# Altium integrated library Linear Technology Power Management Switching Regulator LTC1174-LTC3901.IntLib: 2647 symbols (part 11 of 364)
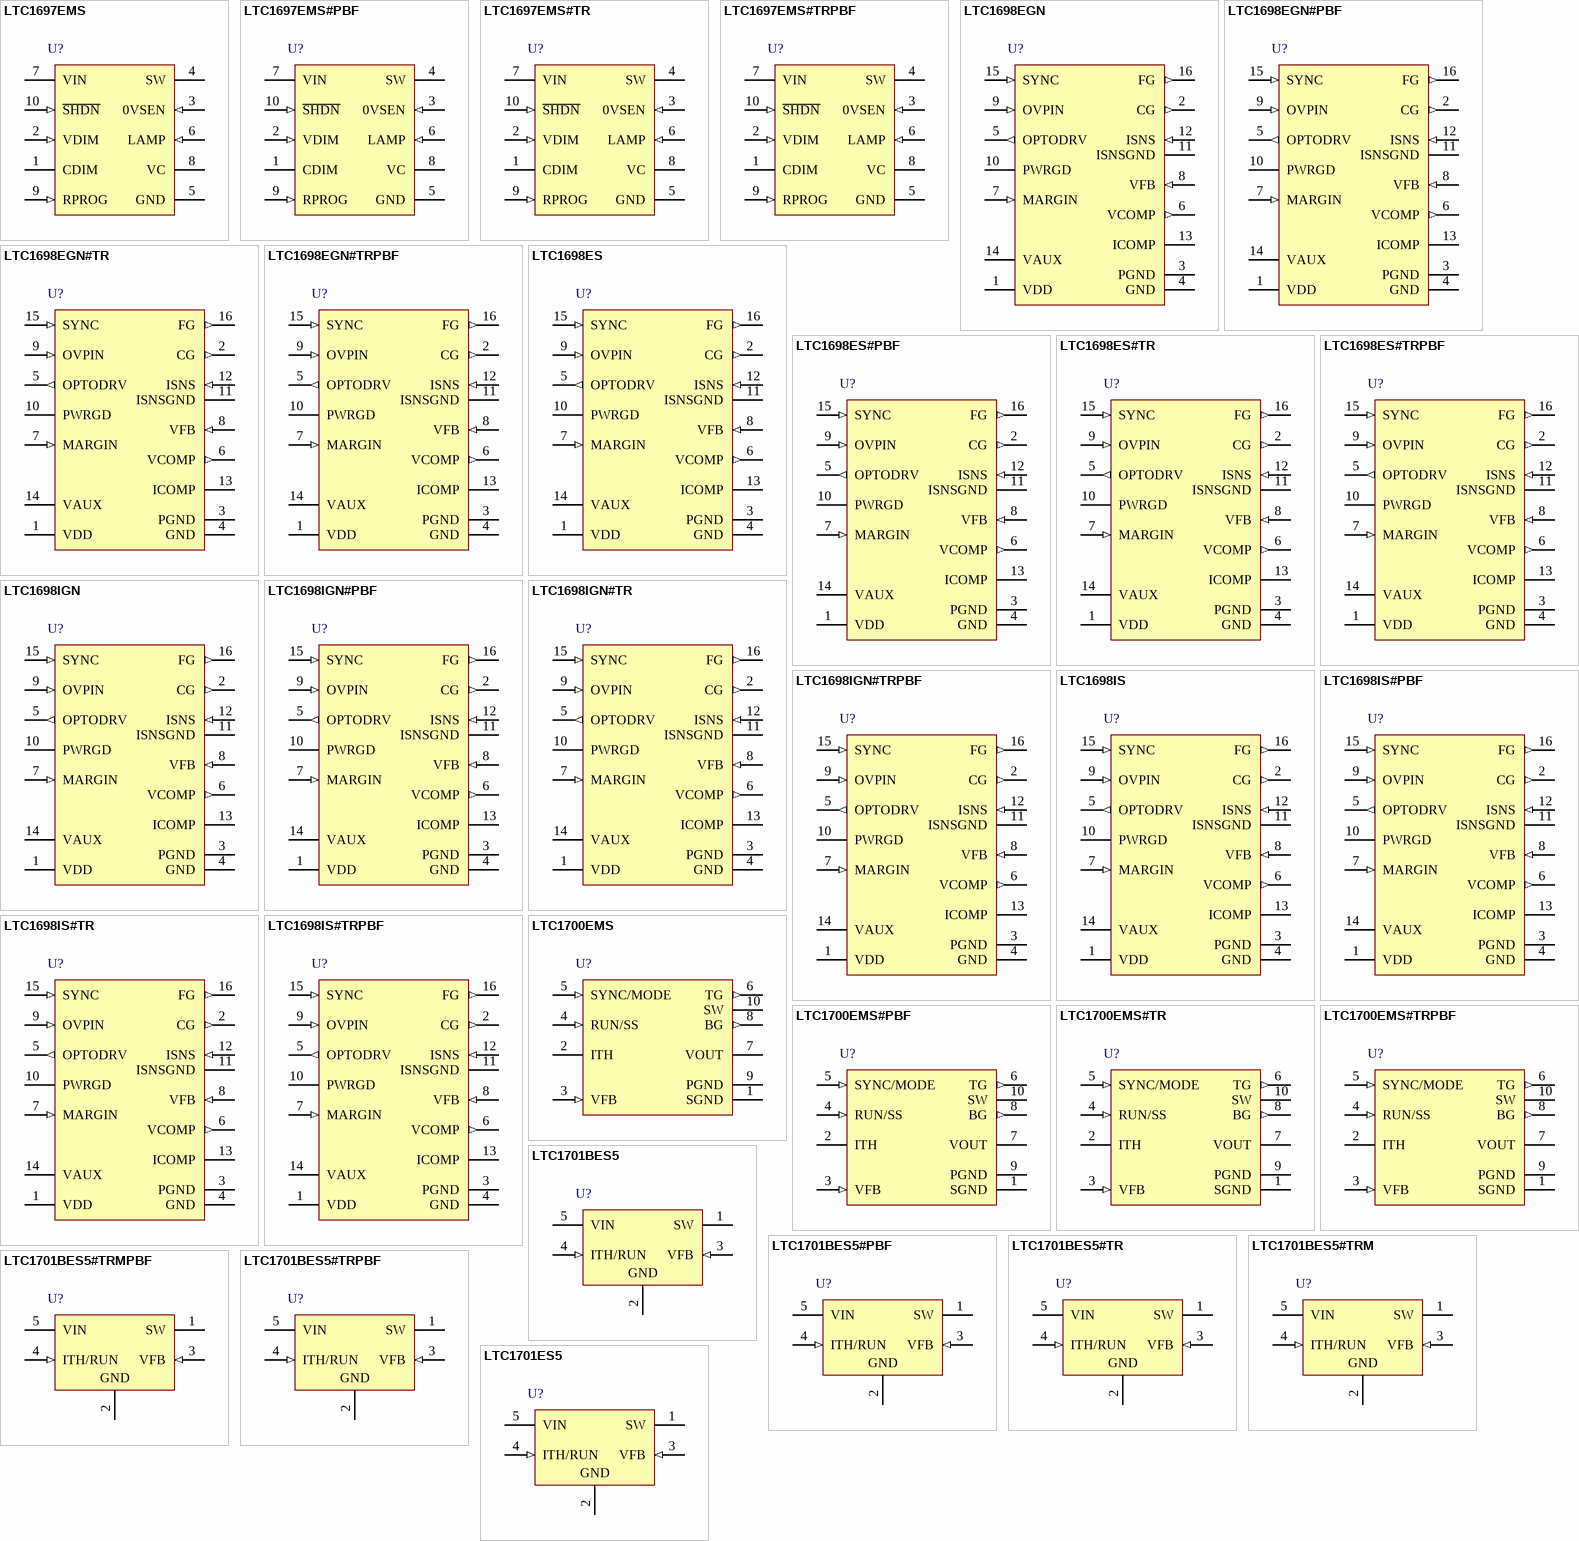
[diagram p121: symbols LTC1697EMS to LTC1701ES5]

## LTC1698IS#PBF
designator U?
Secondary Synchronous Rectifier Controller MIN, 16-pin SOP (S-16), -40 to 85 degC, Pb-Free; Manufacturer: Linear Technology; PartNumber: LTC1698IS#PBF; Number of Outputs: 1; PackageVersion: Rev. G, 05/2012; PackageReference: S-16; PackageDescription: 16-Pin Plastic Small Outline, Body 9.9 x 3.9 mm, Pitch 1.27 mm; Supplier 1: Digi-Key; Supplier Part Number 1: LTC1698IS#PBF-ND; Supplier 2: Farnell; Supplier Part Number 2: 1663668; Supplier 3: Newark; Supplier Part Number 3: 56M3294; RoHS: TRUE; Mounting Technology: Surface Mount; ComponentLink1Description: Manufacturer URL; ComponentLink1URL: http://www.linear.com/; ComponentLink2Description: Datasheet; ComponentLink2URL: http://cds.linear.com/docs/en/datasheet/1698f.pdf; ComponentLink3Description: Package Specification; ComponentLink3URL: http://cds.linear.com/docs/en/packaging/S16%2005-08-1610%20Rev%20G.pdf
footprint LT-S-16_N (SOP, 16-Leads, Body 10x4mm, Pitch 1.27mm, IPC Medium Density)
footprint LT-S-16_L (SOP, 16-Leads, Body 10x4mm, Pitch 1.27mm, IPC High Density)
footprint LT-S-16_M (SOP, 16-Leads, Body 10x4mm, Pitch 1.27mm, IPC Low Density)
pins: 1 VDD (power) "Power Supply Input. For isolated applications, a simple rectifier from the power transformer is used to power the chip. This pin powers the opto driver, the VAUX supply and the FG and CG drivers. An internal 5V regulator (See Datasheet)", 2 CG (out) "Catch Gate Driver. If SYNC slews positive, CG pulls high to drive an external N-channel MOSFET. CG draws power from the VDD pin and swings between VDD and PGND.", 3 PGND (power) "Power Ground. Connect PGND to a low impedance ground plane in close proximity to the ground terminal of the external current sensing resistor.", 4 GND (power) "Logic and Signal Ground. GND is referenced to the internal low power circuitry. Careful board layout techniques must be used to prevent corruption of signal ground reference. Connect GND and PGND together directly at the (See Datasheet)", 5 OPTODRV (out) "Optocoupler Driver Output. This pin drives a ground referenced optocoupler through an external resistor. If VFB is low, OPTODRV pulls low. If VFB is high, OPTODRV pulls high. This optocoupler driver has a DC gain of 5. (See Datasheet)", 6 VCOMP (out) "Error Amplifier Output. This error amplifier is able to drive more than 2kohm and 100pF of load. The internal diode connected from VFB to VCOMP reduces OPTODRV recovery time under start-up conditions.", 7 MARGIN (in) "Current Input to Adjust the Output Voltage Linearly. The MARGIN pin connects to an internal 16.5k resistor. The other end of this resistor is regulated to 1.65V. Connecting MARGIN to a 3.3V logic supply sources 100uA of (See Datasheet)", 8 VFB (in) "Feedback Voltage. VFB senses the regulated output voltage through an external resistor divider. The VFB pin is servoed to the reference voltage of 1.233V under closed-loop conditions. An RC network from VFB to VCOMP (See Datasheet)", 9 OVPIN (in) "Overvoltage Input. OVPIN is a high impedance input to an internal comparator. The threshold of this comparator is set to 1.233V. If the OVPIN potential is higher than the threshold voltage, OPTODRV pulls high immediately. (See Datasheet)", 10 PWRGD (oc) "Power Good Output. This is an opendrain output. PWRGD floats if VFB is above 94% of the nominal value for more than 2ms. PWRGD pulls low if VFB is below 94% of the nominal value for more than 1ms. The PWRGD threshold is (See Datasheet)", 11 ISNSGND (power) "Current Sense Ground. Connect to the positive side of the sense resistor, normally grounded.", 12 ISNS (in) "Current Sense Input. Connect to the negative side of the sense resistor through an external RC lowpass filter. This pin normally sees a negative voltage, which is proportional to the average load current. If current limit is (See Datasheet)", 13 ICOMP "Current Amplifier Output. An RC network at this pin compensates the current limit feedback loop. Referencing the RC to VOUT controls output voltage overshoot on start-up. This pin can float if current limit loop compensation (See Datasheet)", 14 VAUX (power) "Auxiliary 3.3V Logic Supply. This pin requires a 0.1uF or greater bypass capacitor. This auxiliary power supply can power external devices and sources 10mA of current. Internal current limiting is provided.", 15 SYNC (in) "Drivers Synchronization Input. A negative voltage slew at SYNC forces FG to pull high and CG to pull low. A positive voltage slew at SYNC resets the FG pin and CG pulls high. If SYNC loses its synchronization signal for more (See Datasheet)", 16 FG (out) "Forward Gate Driver. If SYNC slews negative, FG goes high. FG draws power from VDD and swings between VDD and PGND."

## LTC1698IS#TR
designator U?
Secondary Synchronous Rectifier Controller MIN, 16-pin SOP (S-16), -40 to 85 degC, Tape and Reel; Manufacturer: Linear Technology; PartNumber: LTC1698IS#TR; Number of Outputs: 1; PackageVersion: Rev. G, 05/2012; PackageReference: S-16; PackageDescription: 16-Pin Plastic Small Outline, Body 9.9 x 3.9 mm, Pitch 1.27 mm; Supplier 1: Digi-Key; Supplier Part Number 1: LTC1698IS#TR-ND; Packing: Tape and Reel; RoHS: FALSE; Mounting Technology: Surface Mount; ComponentLink1Description: Manufacturer URL; ComponentLink1URL: http://www.linear.com/; ComponentLink2Description: Datasheet; ComponentLink2URL: http://cds.linear.com/docs/en/datasheet/1698f.pdf; ComponentLink3Description: Package Specification; ComponentLink3URL: http://cds.linear.com/docs/en/packaging/S16%2005-08-1610%20Rev%20G.pdf
footprint LT-S-16_N (SOP, 16-Leads, Body 10x4mm, Pitch 1.27mm, IPC Medium Density)
footprint LT-S-16_L (SOP, 16-Leads, Body 10x4mm, Pitch 1.27mm, IPC High Density)
footprint LT-S-16_M (SOP, 16-Leads, Body 10x4mm, Pitch 1.27mm, IPC Low Density)
pins: 1 VDD (power) "Power Supply Input. For isolated applications, a simple rectifier from the power transformer is used to power the chip. This pin powers the opto driver, the VAUX supply and the FG and CG drivers. An internal 5V regulator (See Datasheet)", 2 CG (out) "Catch Gate Driver. If SYNC slews positive, CG pulls high to drive an external N-channel MOSFET. CG draws power from the VDD pin and swings between VDD and PGND.", 3 PGND (power) "Power Ground. Connect PGND to a low impedance ground plane in close proximity to the ground terminal of the external current sensing resistor.", 4 GND (power) "Logic and Signal Ground. GND is referenced to the internal low power circuitry. Careful board layout techniques must be used to prevent corruption of signal ground reference. Connect GND and PGND together directly at the (See Datasheet)", 5 OPTODRV (out) "Optocoupler Driver Output. This pin drives a ground referenced optocoupler through an external resistor. If VFB is low, OPTODRV pulls low. If VFB is high, OPTODRV pulls high. This optocoupler driver has a DC gain of 5. (See Datasheet)", 6 VCOMP (out) "Error Amplifier Output. This error amplifier is able to drive more than 2kohm and 100pF of load. The internal diode connected from VFB to VCOMP reduces OPTODRV recovery time under start-up conditions.", 7 MARGIN (in) "Current Input to Adjust the Output Voltage Linearly. The MARGIN pin connects to an internal 16.5k resistor. The other end of this resistor is regulated to 1.65V. Connecting MARGIN to a 3.3V logic supply sources 100uA of (See Datasheet)", 8 VFB (in) "Feedback Voltage. VFB senses the regulated output voltage through an external resistor divider. The VFB pin is servoed to the reference voltage of 1.233V under closed-loop conditions. An RC network from VFB to VCOMP (See Datasheet)", 9 OVPIN (in) "Overvoltage Input. OVPIN is a high impedance input to an internal comparator. The threshold of this comparator is set to 1.233V. If the OVPIN potential is higher than the threshold voltage, OPTODRV pulls high immediately. (See Datasheet)", 10 PWRGD (oc) "Power Good Output. This is an opendrain output. PWRGD floats if VFB is above 94% of the nominal value for more than 2ms. PWRGD pulls low if VFB is below 94% of the nominal value for more than 1ms. The PWRGD threshold is (See Datasheet)", 11 ISNSGND (power) "Current Sense Ground. Connect to the positive side of the sense resistor, normally grounded.", 12 ISNS (in) "Current Sense Input. Connect to the negative side of the sense resistor through an external RC lowpass filter. This pin normally sees a negative voltage, which is proportional to the average load current. If current limit is (See Datasheet)", 13 ICOMP "Current Amplifier Output. An RC network at this pin compensates the current limit feedback loop. Referencing the RC to VOUT controls output voltage overshoot on start-up. This pin can float if current limit loop compensation (See Datasheet)", 14 VAUX (power) "Auxiliary 3.3V Logic Supply. This pin requires a 0.1uF or greater bypass capacitor. This auxiliary power supply can power external devices and sources 10mA of current. Internal current limiting is provided.", 15 SYNC (in) "Drivers Synchronization Input. A negative voltage slew at SYNC forces FG to pull high and CG to pull low. A positive voltage slew at SYNC resets the FG pin and CG pulls high. If SYNC loses its synchronization signal for more (See Datasheet)", 16 FG (out) "Forward Gate Driver. If SYNC slews negative, FG goes high. FG draws power from VDD and swings between VDD and PGND."

## LTC1698IS#TRPBF
designator U?
Secondary Synchronous Rectifier Controller MIN, 16-pin SOP (S-16), -40 to 85 degC, Pb-Free, Tape and Reel; Manufacturer: Linear Technology; PartNumber: LTC1698IS#TRPBF; Number of Outputs: 1; PackageVersion: Rev. G, 05/2012; PackageReference: S-16; PackageDescription: 16-Pin Plastic Small Outline, Body 9.9 x 3.9 mm, Pitch 1.27 mm; Supplier 1: Digi-Key; Supplier Part Number 1: LTC1698IS#TRPBF-ND; Packing: Tape and Reel; RoHS: TRUE; Mounting Technology: Surface Mount; ComponentLink1Description: Manufacturer URL; ComponentLink1URL: http://www.linear.com/; ComponentLink2Description: Datasheet; ComponentLink2URL: http://cds.linear.com/docs/en/datasheet/1698f.pdf; ComponentLink3Description: Package Specification; ComponentLink3URL: http://cds.linear.com/docs/en/packaging/S16%2005-08-1610%20Rev%20G.pdf
footprint LT-S-16_N (SOP, 16-Leads, Body 10x4mm, Pitch 1.27mm, IPC Medium Density)
footprint LT-S-16_L (SOP, 16-Leads, Body 10x4mm, Pitch 1.27mm, IPC High Density)
footprint LT-S-16_M (SOP, 16-Leads, Body 10x4mm, Pitch 1.27mm, IPC Low Density)
pins: 1 VDD (power) "Power Supply Input. For isolated applications, a simple rectifier from the power transformer is used to power the chip. This pin powers the opto driver, the VAUX supply and the FG and CG drivers. An internal 5V regulator (See Datasheet)", 2 CG (out) "Catch Gate Driver. If SYNC slews positive, CG pulls high to drive an external N-channel MOSFET. CG draws power from the VDD pin and swings between VDD and PGND.", 3 PGND (power) "Power Ground. Connect PGND to a low impedance ground plane in close proximity to the ground terminal of the external current sensing resistor.", 4 GND (power) "Logic and Signal Ground. GND is referenced to the internal low power circuitry. Careful board layout techniques must be used to prevent corruption of signal ground reference. Connect GND and PGND together directly at the (See Datasheet)", 5 OPTODRV (out) "Optocoupler Driver Output. This pin drives a ground referenced optocoupler through an external resistor. If VFB is low, OPTODRV pulls low. If VFB is high, OPTODRV pulls high. This optocoupler driver has a DC gain of 5. (See Datasheet)", 6 VCOMP (out) "Error Amplifier Output. This error amplifier is able to drive more than 2kohm and 100pF of load. The internal diode connected from VFB to VCOMP reduces OPTODRV recovery time under start-up conditions.", 7 MARGIN (in) "Current Input to Adjust the Output Voltage Linearly. The MARGIN pin connects to an internal 16.5k resistor. The other end of this resistor is regulated to 1.65V. Connecting MARGIN to a 3.3V logic supply sources 100uA of (See Datasheet)", 8 VFB (in) "Feedback Voltage. VFB senses the regulated output voltage through an external resistor divider. The VFB pin is servoed to the reference voltage of 1.233V under closed-loop conditions. An RC network from VFB to VCOMP (See Datasheet)", 9 OVPIN (in) "Overvoltage Input. OVPIN is a high impedance input to an internal comparator. The threshold of this comparator is set to 1.233V. If the OVPIN potential is higher than the threshold voltage, OPTODRV pulls high immediately. (See Datasheet)", 10 PWRGD (oc) "Power Good Output. This is an opendrain output. PWRGD floats if VFB is above 94% of the nominal value for more than 2ms. PWRGD pulls low if VFB is below 94% of the nominal value for more than 1ms. The PWRGD threshold is (See Datasheet)", 11 ISNSGND (power) "Current Sense Ground. Connect to the positive side of the sense resistor, normally grounded.", 12 ISNS (in) "Current Sense Input. Connect to the negative side of the sense resistor through an external RC lowpass filter. This pin normally sees a negative voltage, which is proportional to the average load current. If current limit is (See Datasheet)", 13 ICOMP "Current Amplifier Output. An RC network at this pin compensates the current limit feedback loop. Referencing the RC to VOUT controls output voltage overshoot on start-up. This pin can float if current limit loop compensation (See Datasheet)", 14 VAUX (power) "Auxiliary 3.3V Logic Supply. This pin requires a 0.1uF or greater bypass capacitor. This auxiliary power supply can power external devices and sources 10mA of current. Internal current limiting is provided.", 15 SYNC (in) "Drivers Synchronization Input. A negative voltage slew at SYNC forces FG to pull high and CG to pull low. A positive voltage slew at SYNC resets the FG pin and CG pulls high. If SYNC loses its synchronization signal for more (See Datasheet)", 16 FG (out) "Forward Gate Driver. If SYNC slews negative, FG goes high. FG draws power from VDD and swings between VDD and PGND."

## LTC1700EMS
designator U?
No Rsense Synchronous Step-Up DC/DC Controller MAX, 10-pin SOP (MS-10), -40 to 85 degC; Manufacturer: Linear Technology; PartNumber: LTC1700EMS; Number of Outputs: 1; DatasheetVersion: Rev. A; PackageVersion: Rev. E, 06/2010; PackageReference: MS-10; PackageDescription: 10-Pin Plastic MSOP, Body 3 x 3 mm, Pitch 0.5 mm; Supplier 1: Digi-Key; Supplier Part Number 1: LTC1700EMS-ND; RoHS: FALSE; Mounting Technology: Surface Mount; ComponentLink1Description: Manufacturer URL; ComponentLink1URL: http://www.linear.com/; ComponentLink2Description: Datasheet; ComponentLink2URL: http://cds.linear.com/docs/en/datasheet/1700fa.pdf; ComponentLink3Description: Package Specification; ComponentLink3URL: http://cds.linear.com/docs/en/packaging/05081661_F_MS.pdf
footprint LT-MS-10_N (SOP, 10-Leads, Body 3.1x3.1mm, Pitch 0.5mm, IPC Medium Density)
footprint LT-MS-10_L (SOP, 10-Leads, Body 3.1x3.1mm, Pitch 0.5mm, IPC High Density)
footprint LT-MS-10_M (SOP, 10-Leads, Body 3.1x3.1mm, Pitch 0.5mm, IPC Low Density)
pins: 1 SGND (power) "Small-Signal Ground. Must be routed separately from other grounds to the (-) terminal of COUT.", 2 ITH "Error Amplifier Compensation Point. The current comparator threshold increases with this control voltage. Nominal voltage range for this pin is 0V to 1.18V.", 3 VFB (in) "Receives the feedback voltage from an external resistive divider across the output capacitor.", 4 RUN/SS (in) "Combination of Soft-Start and Run Control Inputs. A capacitor to ground at this pin sets the ramp time to full output current. The time is approximately 0.45s/uF. Forcing this pin below 1.08V causes all circuitry to be shut (See Datasheet)", 5 SYNC/MODE (in) "This pin performs three functions. A voltage greater than 1.2V on this pin allows Burst Mode operation at low load currents, while grounding or applying a clock signal on this pin defeats Burst Mode operation. An external (See Datasheet)", 6 TG (out) "Top Gate Drive. Drives the external synchronous P-channel MOSFET with a voltage swing between 0V to VOUT.", 7 VOUT (power) "This pin performs two functions. It serves as the supply pin and also as one of the inputs to the current reversal comparator.", 8 BG (out) "Bottom Gate Drive. Drives the external main N-channel MOSFET with a voltage swing between 0V to VOUT.", 9 PGND (power) "Top and Bottom Gate Drivers Ground. Connects to the (-) terminal of COUT. Source of the main N-channel MOSFET must be connected close to this pin since this pin is also one of the inputs to the VDS sense amplifier.", 10 SW (power) "This pin connects to the inputs of two comparators: The VDS sense amplifier and the current reversal comparator. The drain of an internal N-channel start-up MOSFET (M1) is also connected to this pin."

## LTC1700EMS#PBF
designator U?
No Rsense Synchronous Step-Up DC/DC Controller MAX, 10-pin SOP (MS-10), -40 to 85 degC, Pb-Free; Manufacturer: Linear Technology; PartNumber: LTC1700EMS#PBF; Number of Outputs: 1; DatasheetVersion: Rev. A; PackageVersion: Rev. E, 06/2010; PackageReference: MS-10; PackageDescription: 10-Pin Plastic MSOP, Body 3 x 3 mm, Pitch 0.5 mm; Supplier 1: Digi-Key; Supplier Part Number 1: LTC1700EMS#PBF-ND; Supplier 2: Farnell; Supplier Part Number 2: 1663669; Supplier 3: Newark; Supplier Part Number 3: 56M3322; RoHS: TRUE; Mounting Technology: Surface Mount; ComponentLink1Description: Manufacturer URL; ComponentLink1URL: http://www.linear.com/; ComponentLink2Description: Datasheet; ComponentLink2URL: http://cds.linear.com/docs/en/datasheet/1700fa.pdf; ComponentLink3Description: Package Specification; ComponentLink3URL: http://cds.linear.com/docs/en/packaging/05081661_F_MS.pdf
footprint LT-MS-10_N (SOP, 10-Leads, Body 3.1x3.1mm, Pitch 0.5mm, IPC Medium Density)
footprint LT-MS-10_L (SOP, 10-Leads, Body 3.1x3.1mm, Pitch 0.5mm, IPC High Density)
footprint LT-MS-10_M (SOP, 10-Leads, Body 3.1x3.1mm, Pitch 0.5mm, IPC Low Density)
pins: 1 SGND (power) "Small-Signal Ground. Must be routed separately from other grounds to the (-) terminal of COUT.", 2 ITH "Error Amplifier Compensation Point. The current comparator threshold increases with this control voltage. Nominal voltage range for this pin is 0V to 1.18V.", 3 VFB (in) "Receives the feedback voltage from an external resistive divider across the output capacitor.", 4 RUN/SS (in) "Combination of Soft-Start and Run Control Inputs. A capacitor to ground at this pin sets the ramp time to full output current. The time is approximately 0.45s/uF. Forcing this pin below 1.08V causes all circuitry to be shut (See Datasheet)", 5 SYNC/MODE (in) "This pin performs three functions. A voltage greater than 1.2V on this pin allows Burst Mode operation at low load currents, while grounding or applying a clock signal on this pin defeats Burst Mode operation. An external (See Datasheet)", 6 TG (out) "Top Gate Drive. Drives the external synchronous P-channel MOSFET with a voltage swing between 0V to VOUT.", 7 VOUT (power) "This pin performs two functions. It serves as the supply pin and also as one of the inputs to the current reversal comparator.", 8 BG (out) "Bottom Gate Drive. Drives the external main N-channel MOSFET with a voltage swing between 0V to VOUT.", 9 PGND (power) "Top and Bottom Gate Drivers Ground. Connects to the (-) terminal of COUT. Source of the main N-channel MOSFET must be connected close to this pin since this pin is also one of the inputs to the VDS sense amplifier.", 10 SW (power) "This pin connects to the inputs of two comparators: The VDS sense amplifier and the current reversal comparator. The drain of an internal N-channel start-up MOSFET (M1) is also connected to this pin."

## LTC1700EMS#TR
designator U?
No Rsense Synchronous Step-Up DC/DC Controller MAX, 10-pin SOP (MS-10), -40 to 85 degC, Tape and Reel; Manufacturer: Linear Technology; PartNumber: LTC1700EMS#TR; Number of Outputs: 1; DatasheetVersion: Rev. A; PackageVersion: Rev. E, 06/2010; PackageReference: MS-10; PackageDescription: 10-Pin Plastic MSOP, Body 3 x 3 mm, Pitch 0.5 mm; Supplier 1: Digi-Key; Supplier Part Number 1: LTC1700EMSTR-ND; Packing: Tape and Reel; RoHS: FALSE; Mounting Technology: Surface Mount; ComponentLink1Description: Manufacturer URL; ComponentLink1URL: http://www.linear.com/; ComponentLink2Description: Datasheet; ComponentLink2URL: http://cds.linear.com/docs/en/datasheet/1700fa.pdf; ComponentLink3Description: Package Specification; ComponentLink3URL: http://cds.linear.com/docs/en/packaging/05081661_F_MS.pdf
footprint LT-MS-10_N (SOP, 10-Leads, Body 3.1x3.1mm, Pitch 0.5mm, IPC Medium Density)
footprint LT-MS-10_L (SOP, 10-Leads, Body 3.1x3.1mm, Pitch 0.5mm, IPC High Density)
footprint LT-MS-10_M (SOP, 10-Leads, Body 3.1x3.1mm, Pitch 0.5mm, IPC Low Density)
pins: 1 SGND (power) "Small-Signal Ground. Must be routed separately from other grounds to the (-) terminal of COUT.", 2 ITH "Error Amplifier Compensation Point. The current comparator threshold increases with this control voltage. Nominal voltage range for this pin is 0V to 1.18V.", 3 VFB (in) "Receives the feedback voltage from an external resistive divider across the output capacitor.", 4 RUN/SS (in) "Combination of Soft-Start and Run Control Inputs. A capacitor to ground at this pin sets the ramp time to full output current. The time is approximately 0.45s/uF. Forcing this pin below 1.08V causes all circuitry to be shut (See Datasheet)", 5 SYNC/MODE (in) "This pin performs three functions. A voltage greater than 1.2V on this pin allows Burst Mode operation at low load currents, while grounding or applying a clock signal on this pin defeats Burst Mode operation. An external (See Datasheet)", 6 TG (out) "Top Gate Drive. Drives the external synchronous P-channel MOSFET with a voltage swing between 0V to VOUT.", 7 VOUT (power) "This pin performs two functions. It serves as the supply pin and also as one of the inputs to the current reversal comparator.", 8 BG (out) "Bottom Gate Drive. Drives the external main N-channel MOSFET with a voltage swing between 0V to VOUT.", 9 PGND (power) "Top and Bottom Gate Drivers Ground. Connects to the (-) terminal of COUT. Source of the main N-channel MOSFET must be connected close to this pin since this pin is also one of the inputs to the VDS sense amplifier.", 10 SW (power) "This pin connects to the inputs of two comparators: The VDS sense amplifier and the current reversal comparator. The drain of an internal N-channel start-up MOSFET (M1) is also connected to this pin."

## LTC1700EMS#TRPBF
designator U?
No Rsense Synchronous Step-Up DC/DC Controller MAX, 10-pin SOP (MS-10), -40 to 85 degC, Pb-Free, Tape and Reel; Manufacturer: Linear Technology; PartNumber: LTC1700EMS#TRPBF; Number of Outputs: 1; DatasheetVersion: Rev. A; PackageVersion: Rev. E, 06/2010; PackageReference: MS-10; PackageDescription: 10-Pin Plastic MSOP, Body 3 x 3 mm, Pitch 0.5 mm; Supplier 1: Digi-Key; Supplier Part Number 1: LTC1700EMS#TRPBF-ND; Packing: Tape and Reel; RoHS: TRUE; Mounting Technology: Surface Mount; ComponentLink1Description: Manufacturer URL; ComponentLink1URL: http://www.linear.com/; ComponentLink2Description: Datasheet; ComponentLink2URL: http://cds.linear.com/docs/en/datasheet/1700fa.pdf; ComponentLink3Description: Package Specification; ComponentLink3URL: http://cds.linear.com/docs/en/packaging/05081661_F_MS.pdf
footprint LT-MS-10_N (SOP, 10-Leads, Body 3.1x3.1mm, Pitch 0.5mm, IPC Medium Density)
footprint LT-MS-10_L (SOP, 10-Leads, Body 3.1x3.1mm, Pitch 0.5mm, IPC High Density)
footprint LT-MS-10_M (SOP, 10-Leads, Body 3.1x3.1mm, Pitch 0.5mm, IPC Low Density)
pins: 1 SGND (power) "Small-Signal Ground. Must be routed separately from other grounds to the (-) terminal of COUT.", 2 ITH "Error Amplifier Compensation Point. The current comparator threshold increases with this control voltage. Nominal voltage range for this pin is 0V to 1.18V.", 3 VFB (in) "Receives the feedback voltage from an external resistive divider across the output capacitor.", 4 RUN/SS (in) "Combination of Soft-Start and Run Control Inputs. A capacitor to ground at this pin sets the ramp time to full output current. The time is approximately 0.45s/uF. Forcing this pin below 1.08V causes all circuitry to be shut (See Datasheet)", 5 SYNC/MODE (in) "This pin performs three functions. A voltage greater than 1.2V on this pin allows Burst Mode operation at low load currents, while grounding or applying a clock signal on this pin defeats Burst Mode operation. An external (See Datasheet)", 6 TG (out) "Top Gate Drive. Drives the external synchronous P-channel MOSFET with a voltage swing between 0V to VOUT.", 7 VOUT (power) "This pin performs two functions. It serves as the supply pin and also as one of the inputs to the current reversal comparator.", 8 BG (out) "Bottom Gate Drive. Drives the external main N-channel MOSFET with a voltage swing between 0V to VOUT.", 9 PGND (power) "Top and Bottom Gate Drivers Ground. Connects to the (-) terminal of COUT. Source of the main N-channel MOSFET must be connected close to this pin since this pin is also one of the inputs to the VDS sense amplifier.", 10 SW (power) "This pin connects to the inputs of two comparators: The VDS sense amplifier and the current reversal comparator. The drain of an internal N-channel start-up MOSFET (M1) is also connected to this pin."

## LTC1701BES5
designator U?
1 MHz Step-Down DC/DC Converter, No Burst Mode, 5-pin SOT23 (S5-5), -40 to 85 degC; Manufacturer: Linear Technology; PartNumber: LTC1701BES5; Number of Outputs: 1; DatasheetVersion: Rev. A; PackageVersion: Jun-10; PackageReference: S5-5; PackageDescription: 5-Pin Plastic TSOT-23, Body 1.63 x 2.90 mm, Pitch 0.95 mm; RoHS: FALSE; Mounting Technology: Surface Mount; Code_JEDEC: MO-193; ComponentLink1Description: Manufacturer URL; ComponentLink1URL: http://www.linear.com/; ComponentLink2Description: Datasheet; ComponentLink2URL: http://cds.linear.com/docs/en/datasheet/1701bfa.pdf; ComponentLink3Description: Package Specification; ComponentLink3URL: http://cds.linear.com/docs/en/packaging/SOT_5_05-08-1635.pdf
footprint LT-S5-5-TSOT-23_N (SOT23, 5-Leads, Body 2.90x1.63mm, Pitch 0.95mm, IPC Medium Density)
footprint LT-S5-5-TSOT-23_L (SOT23, 5-Leads, Body 2.90x1.63mm, Pitch 0.95mm, IPC High Density)
footprint LT-S5-5-TSOT-23_M (SOT23, 5-Leads, Body 2.90x1.63mm, Pitch 0.95mm, IPC Low Density)
pins: 1 SW (power) "The Switch Node Connection to the Inductor. This pin swings from VIN to a Schottky diode (external) voltage drop below ground. The cathode of the Schottky diode must be closely connected to this pin.", 2 GND (power) "Ground Pin. Connect to the (-) terminal of COUT, the Schottky diode and (-) terminal of CIN.", 3 VFB (in) "Receives the feedback voltage from the external resistive divider across the output. Nominal voltage for this pin is 1.25V.", 4 ITH/RUN (in) "Combination of Error Amplifier Compensation Point and Run Control Input. The current comparator threshold increases with this control voltage. Nominal voltage range for this pin is 1.25V to 2.25V. Forcing this pin below 0.8V (See Datasheet)", 5 VIN (power) "Main Supply Pin and the (+) Input to the Current Comparator. Must be closely decoupled to ground."

## LTC1701BES5#PBF
designator U?
1 MHz Step-Down DC/DC Converter, No Burst Mode, 5-pin SOT23 (S5-5), -40 to 85 degC, Pb-Free; Manufacturer: Linear Technology; PartNumber: LTC1701BES5#PBF; Number of Outputs: 1; DatasheetVersion: Rev. A; PackageVersion: Jun-10; PackageReference: S5-5; PackageDescription: 5-Pin Plastic TSOT-23, Body 1.63 x 2.90 mm, Pitch 0.95 mm; Supplier 1: Newark; Supplier Part Number 1: 78T2511; RoHS: TRUE; Mounting Technology: Surface Mount; Code_JEDEC: MO-193; ComponentLink1Description: Manufacturer URL; ComponentLink1URL: http://www.linear.com/; ComponentLink2Description: Datasheet; ComponentLink2URL: http://cds.linear.com/docs/en/datasheet/1701bfa.pdf; ComponentLink3Description: Package Specification; ComponentLink3URL: http://cds.linear.com/docs/en/packaging/SOT_5_05-08-1635.pdf
footprint LT-S5-5-TSOT-23_N (SOT23, 5-Leads, Body 2.90x1.63mm, Pitch 0.95mm, IPC Medium Density)
footprint LT-S5-5-TSOT-23_L (SOT23, 5-Leads, Body 2.90x1.63mm, Pitch 0.95mm, IPC High Density)
footprint LT-S5-5-TSOT-23_M (SOT23, 5-Leads, Body 2.90x1.63mm, Pitch 0.95mm, IPC Low Density)
pins: 1 SW (power) "The Switch Node Connection to the Inductor. This pin swings from VIN to a Schottky diode (external) voltage drop below ground. The cathode of the Schottky diode must be closely connected to this pin.", 2 GND (power) "Ground Pin. Connect to the (-) terminal of COUT, the Schottky diode and (-) terminal of CIN.", 3 VFB (in) "Receives the feedback voltage from the external resistive divider across the output. Nominal voltage for this pin is 1.25V.", 4 ITH/RUN (in) "Combination of Error Amplifier Compensation Point and Run Control Input. The current comparator threshold increases with this control voltage. Nominal voltage range for this pin is 1.25V to 2.25V. Forcing this pin below 0.8V (See Datasheet)", 5 VIN (power) "Main Supply Pin and the (+) Input to the Current Comparator. Must be closely decoupled to ground."

## LTC1701BES5#TR
designator U?
1 MHz Step-Down DC/DC Converter, No Burst Mode, 5-pin SOT23 (S5-5), -40 to 85 degC, Tape and Reel; Manufacturer: Linear Technology; PartNumber: LTC1701BES5#TR; Number of Outputs: 1; DatasheetVersion: Rev. A; PackageVersion: Jun-10; PackageReference: S5-5; PackageDescription: 5-Pin Plastic TSOT-23, Body 1.63 x 2.90 mm, Pitch 0.95 mm; Supplier 1: Digi-Key; Supplier Part Number 1: LTC1701BES5TR-ND; Packing: Tape and Reel; RoHS: FALSE; Mounting Technology: Surface Mount; Code_JEDEC: MO-193; ComponentLink1Description: Manufacturer URL; ComponentLink1URL: http://www.linear.com/; ComponentLink2Description: Datasheet; ComponentLink2URL: http://cds.linear.com/docs/en/datasheet/1701bfa.pdf; ComponentLink3Description: Package Specification; ComponentLink3URL: http://cds.linear.com/docs/en/packaging/SOT_5_05-08-1635.pdf
footprint LT-S5-5-TSOT-23_N (SOT23, 5-Leads, Body 2.90x1.63mm, Pitch 0.95mm, IPC Medium Density)
footprint LT-S5-5-TSOT-23_L (SOT23, 5-Leads, Body 2.90x1.63mm, Pitch 0.95mm, IPC High Density)
footprint LT-S5-5-TSOT-23_M (SOT23, 5-Leads, Body 2.90x1.63mm, Pitch 0.95mm, IPC Low Density)
pins: 1 SW (power) "The Switch Node Connection to the Inductor. This pin swings from VIN to a Schottky diode (external) voltage drop below ground. The cathode of the Schottky diode must be closely connected to this pin.", 2 GND (power) "Ground Pin. Connect to the (-) terminal of COUT, the Schottky diode and (-) terminal of CIN.", 3 VFB (in) "Receives the feedback voltage from the external resistive divider across the output. Nominal voltage for this pin is 1.25V.", 4 ITH/RUN (in) "Combination of Error Amplifier Compensation Point and Run Control Input. The current comparator threshold increases with this control voltage. Nominal voltage range for this pin is 1.25V to 2.25V. Forcing this pin below 0.8V (See Datasheet)", 5 VIN (power) "Main Supply Pin and the (+) Input to the Current Comparator. Must be closely decoupled to ground."

## LTC1701BES5#TRM
designator U?
1 MHz Step-Down DC/DC Converter, No Burst Mode, 5-pin SOT23 (S5-5), -40 to 85 degC, Mini Tape and Reel; Manufacturer: Linear Technology; PartNumber: LTC1701BES5#TRM; Number of Outputs: 1; DatasheetVersion: Rev. A; PackageVersion: Jun-10; PackageReference: S5-5; PackageDescription: 5-Pin Plastic TSOT-23, Body 1.63 x 2.90 mm, Pitch 0.95 mm; Supplier 1: Digi-Key; Supplier Part Number 1: LTC1701BES5#TRMTR-ND; Supplier 2: Digi-Key; Supplier Part Number 2: LTC1701BES5#TRMCT-ND; Packing: Mini Tape and Reel; RoHS: FALSE; Mounting Technology: Surface Mount; Code_JEDEC: MO-193; ComponentLink1Description: Manufacturer URL; ComponentLink1URL: http://www.linear.com/; ComponentLink2Description: Datasheet; ComponentLink2URL: http://cds.linear.com/docs/en/datasheet/1701bfa.pdf; ComponentLink3Description: Package Specification; ComponentLink3URL: http://cds.linear.com/docs/en/packaging/SOT_5_05-08-1635.pdf
footprint LT-S5-5-TSOT-23_N (SOT23, 5-Leads, Body 2.90x1.63mm, Pitch 0.95mm, IPC Medium Density)
footprint LT-S5-5-TSOT-23_L (SOT23, 5-Leads, Body 2.90x1.63mm, Pitch 0.95mm, IPC High Density)
footprint LT-S5-5-TSOT-23_M (SOT23, 5-Leads, Body 2.90x1.63mm, Pitch 0.95mm, IPC Low Density)
pins: 1 SW (power) "The Switch Node Connection to the Inductor. This pin swings from VIN to a Schottky diode (external) voltage drop below ground. The cathode of the Schottky diode must be closely connected to this pin.", 2 GND (power) "Ground Pin. Connect to the (-) terminal of COUT, the Schottky diode and (-) terminal of CIN.", 3 VFB (in) "Receives the feedback voltage from the external resistive divider across the output. Nominal voltage for this pin is 1.25V.", 4 ITH/RUN (in) "Combination of Error Amplifier Compensation Point and Run Control Input. The current comparator threshold increases with this control voltage. Nominal voltage range for this pin is 1.25V to 2.25V. Forcing this pin below 0.8V (See Datasheet)", 5 VIN (power) "Main Supply Pin and the (+) Input to the Current Comparator. Must be closely decoupled to ground."

## LTC1701BES5#TRMPBF
designator U?
1 MHz Step-Down DC/DC Converter, No Burst Mode, 5-pin SOT23 (S5-5), -40 to 85 degC, Pb-Free, Mini Tape and Reel; Manufacturer: Linear Technology; PartNumber: LTC1701BES5#TRMPBF; Number of Outputs: 1; DatasheetVersion: Rev. A; PackageVersion: Jun-10; PackageReference: S5-5; PackageDescription: 5-Pin Plastic TSOT-23, Body 1.63 x 2.90 mm, Pitch 0.95 mm; Supplier 1: Digi-Key; Supplier Part Number 1: LTC1701BES5#TRMPBFTR-ND; Supplier 2: Digi-Key; Supplier Part Number 2: LTC1701BES5#TRMPBFCT-ND; Supplier 3: Digi-Key; Supplier Part Number 3: LTC1701BES5#TRMPBFDKR-ND; Packing: Mini Tape and Reel; RoHS: TRUE; Mounting Technology: Surface Mount; Code_JEDEC: MO-193; ComponentLink1Description: Manufacturer URL; ComponentLink1URL: http://www.linear.com/; ComponentLink2Description: Datasheet; ComponentLink2URL: http://cds.linear.com/docs/en/datasheet/1701bfa.pdf; ComponentLink3Description: Package Specification; ComponentLink3URL: http://cds.linear.com/docs/en/packaging/SOT_5_05-08-1635.pdf
footprint LT-S5-5-TSOT-23_N (SOT23, 5-Leads, Body 2.90x1.63mm, Pitch 0.95mm, IPC Medium Density)
footprint LT-S5-5-TSOT-23_L (SOT23, 5-Leads, Body 2.90x1.63mm, Pitch 0.95mm, IPC High Density)
footprint LT-S5-5-TSOT-23_M (SOT23, 5-Leads, Body 2.90x1.63mm, Pitch 0.95mm, IPC Low Density)
pins: 1 SW (power) "The Switch Node Connection to the Inductor. This pin swings from VIN to a Schottky diode (external) voltage drop below ground. The cathode of the Schottky diode must be closely connected to this pin.", 2 GND (power) "Ground Pin. Connect to the (-) terminal of COUT, the Schottky diode and (-) terminal of CIN.", 3 VFB (in) "Receives the feedback voltage from the external resistive divider across the output. Nominal voltage for this pin is 1.25V.", 4 ITH/RUN (in) "Combination of Error Amplifier Compensation Point and Run Control Input. The current comparator threshold increases with this control voltage. Nominal voltage range for this pin is 1.25V to 2.25V. Forcing this pin below 0.8V (See Datasheet)", 5 VIN (power) "Main Supply Pin and the (+) Input to the Current Comparator. Must be closely decoupled to ground."

## LTC1701BES5#TRPBF
designator U?
1 MHz Step-Down DC/DC Converter, No Burst Mode, 5-pin SOT23 (S5-5), -40 to 85 degC, Pb-Free, Tape and Reel; Manufacturer: Linear Technology; PartNumber: LTC1701BES5#TRPBF; Number of Outputs: 1; DatasheetVersion: Rev. A; PackageVersion: Jun-10; PackageReference: S5-5; PackageDescription: 5-Pin Plastic TSOT-23, Body 1.63 x 2.90 mm, Pitch 0.95 mm; Supplier 1: Digi-Key; Supplier Part Number 1: LTC1701BES5#TRPBF-ND; Packing: Tape and Reel; RoHS: TRUE; Mounting Technology: Surface Mount; Code_JEDEC: MO-193; ComponentLink1Description: Manufacturer URL; ComponentLink1URL: http://www.linear.com/; ComponentLink2Description: Datasheet; ComponentLink2URL: http://cds.linear.com/docs/en/datasheet/1701bfa.pdf; ComponentLink3Description: Package Specification; ComponentLink3URL: http://cds.linear.com/docs/en/packaging/SOT_5_05-08-1635.pdf
footprint LT-S5-5-TSOT-23_N (SOT23, 5-Leads, Body 2.90x1.63mm, Pitch 0.95mm, IPC Medium Density)
footprint LT-S5-5-TSOT-23_L (SOT23, 5-Leads, Body 2.90x1.63mm, Pitch 0.95mm, IPC High Density)
footprint LT-S5-5-TSOT-23_M (SOT23, 5-Leads, Body 2.90x1.63mm, Pitch 0.95mm, IPC Low Density)
pins: 1 SW (power) "The Switch Node Connection to the Inductor. This pin swings from VIN to a Schottky diode (external) voltage drop below ground. The cathode of the Schottky diode must be closely connected to this pin.", 2 GND (power) "Ground Pin. Connect to the (-) terminal of COUT, the Schottky diode and (-) terminal of CIN.", 3 VFB (in) "Receives the feedback voltage from the external resistive divider across the output. Nominal voltage for this pin is 1.25V.", 4 ITH/RUN (in) "Combination of Error Amplifier Compensation Point and Run Control Input. The current comparator threshold increases with this control voltage. Nominal voltage range for this pin is 1.25V to 2.25V. Forcing this pin below 0.8V (See Datasheet)", 5 VIN (power) "Main Supply Pin and the (+) Input to the Current Comparator. Must be closely decoupled to ground."

## LTC1701ES5
designator U?
1 MHz Step-Down DC/DC Converter, 5-pin SOT23 (S5-5), -40 to 85 degC; Manufacturer: Linear Technology; PartNumber: LTC1701ES5; Number of Outputs: 1; DatasheetVersion: Rev. A; PackageVersion: Jun-10; PackageReference: S5-5; PackageDescription: 5-Pin Plastic TSOT-23, Body 1.63 x 2.90 mm, Pitch 0.95 mm; RoHS: FALSE; Mounting Technology: Surface Mount; Code_JEDEC: MO-193; ComponentLink1Description: Manufacturer URL; ComponentLink1URL: http://www.linear.com/; ComponentLink2Description: Datasheet; ComponentLink2URL: http://cds.linear.com/docs/en/datasheet/1701bfa.pdf; ComponentLink3Description: Package Specification; ComponentLink3URL: http://cds.linear.com/docs/en/packaging/SOT_5_05-08-1635.pdf
footprint LT-S5-5-TSOT-23_N (SOT23, 5-Leads, Body 2.90x1.63mm, Pitch 0.95mm, IPC Medium Density)
footprint LT-S5-5-TSOT-23_L (SOT23, 5-Leads, Body 2.90x1.63mm, Pitch 0.95mm, IPC High Density)
footprint LT-S5-5-TSOT-23_M (SOT23, 5-Leads, Body 2.90x1.63mm, Pitch 0.95mm, IPC Low Density)
pins: 1 SW (power) "The Switch Node Connection to the Inductor. This pin swings from VIN to a Schottky diode (external) voltage drop below ground. The cathode of the Schottky diode must be closely connected to this pin.", 2 GND (power) "Ground Pin. Connect to the (-) terminal of COUT, the Schottky diode and (-) terminal of CIN.", 3 VFB (in) "Receives the feedback voltage from the external resistive divider across the output. Nominal voltage for this pin is 1.25V.", 4 ITH/RUN (in) "Combination of Error Amplifier Compensation Point and Run Control Input. The current comparator threshold increases with this control voltage. Nominal voltage range for this pin is 1.25V to 2.25V. Forcing this pin below 0.8V (See Datasheet)", 5 VIN (power) "Main Supply Pin and the (+) Input to the Current Comparator. Must be closely decoupled to ground."

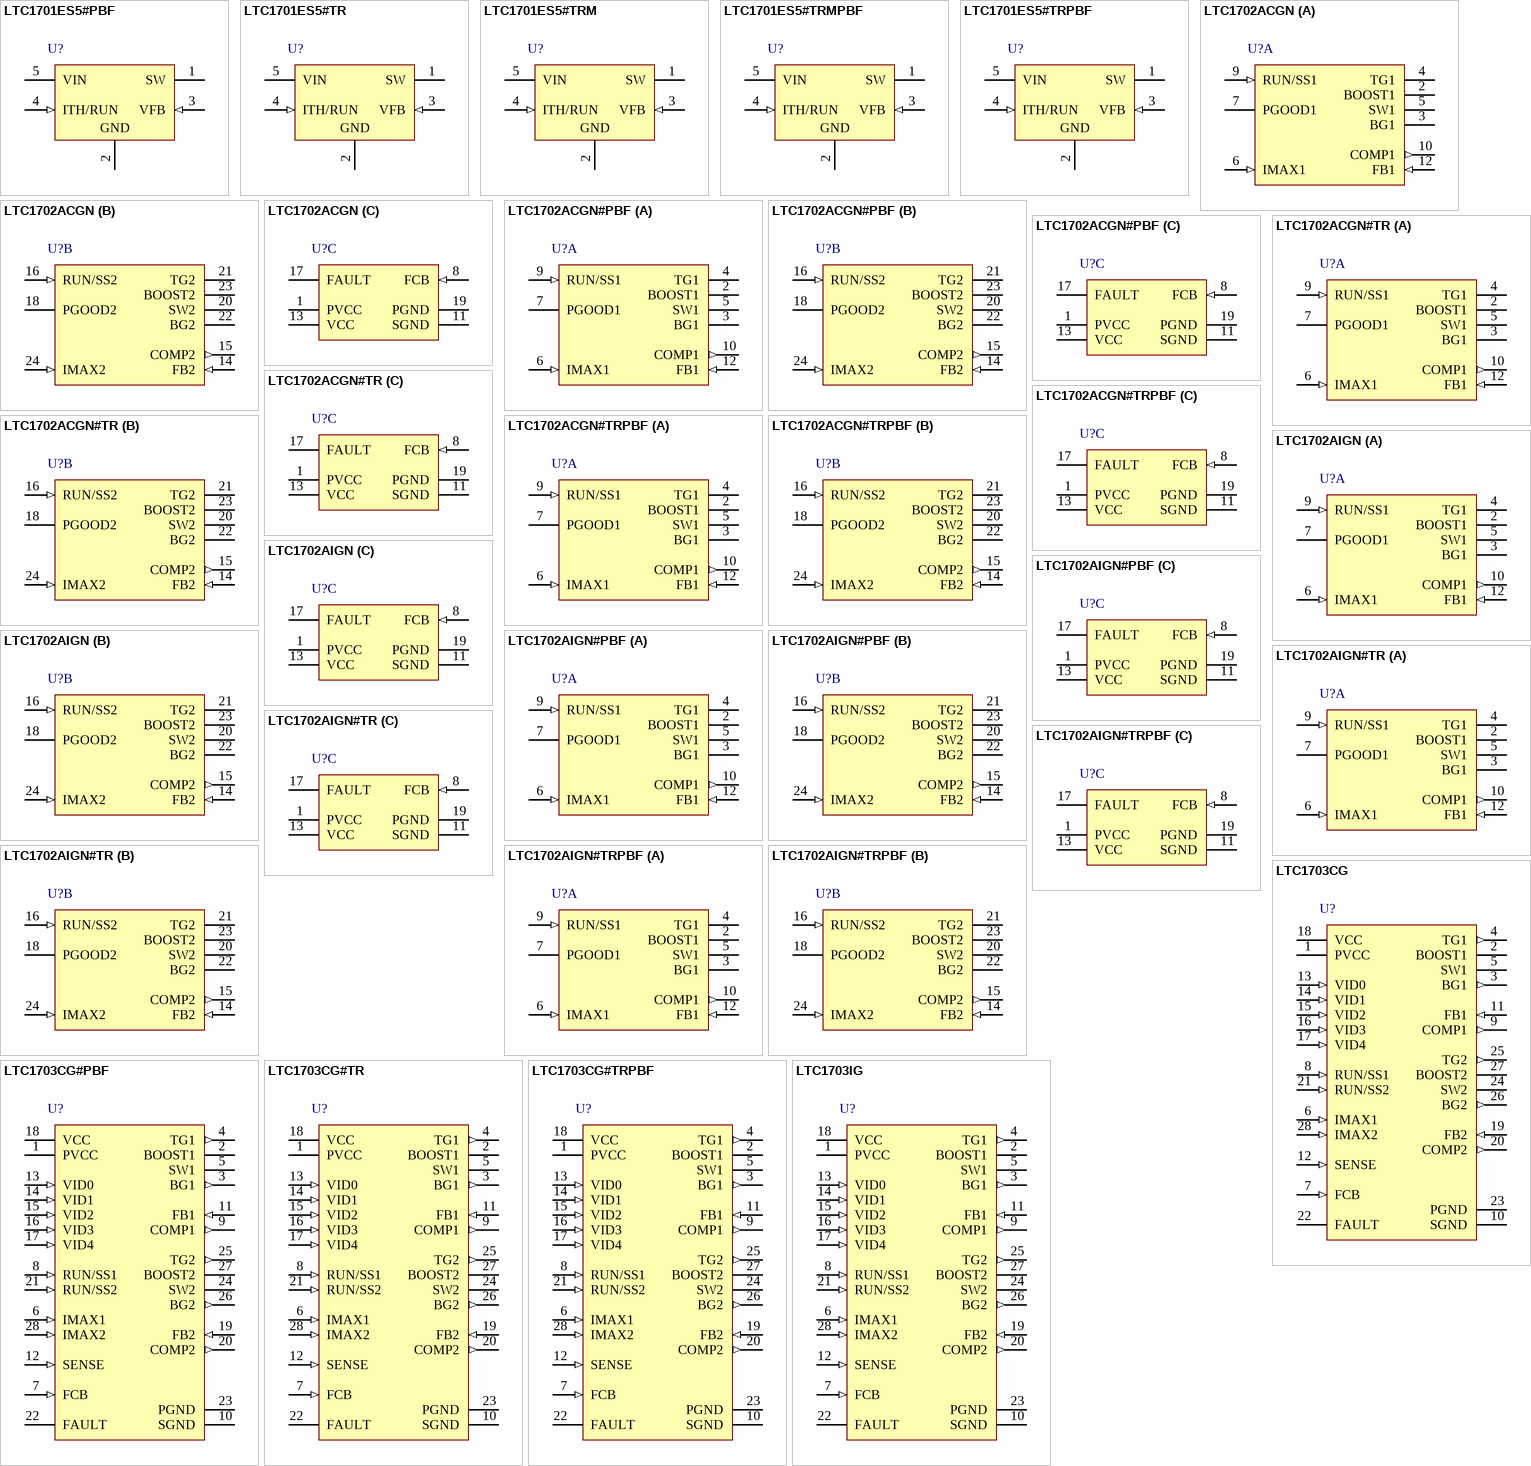
[diagram p4: symbols LTC1701ES5#PBF to LTC1703IG]

## LTC1701ES5#PBF
designator U?
1 MHz Step-Down DC/DC Converter, 5-pin SOT23 (S5-5), -40 to 85 degC, Pb-Free; Manufacturer: Linear Technology; PartNumber: LTC1701ES5#PBF; Number of Outputs: 1; DatasheetVersion: Rev. A; PackageVersion: Jun-10; PackageReference: S5-5; PackageDescription: 5-Pin Plastic TSOT-23, Body 1.63 x 2.90 mm, Pitch 0.95 mm; Supplier 1: Newark; Supplier Part Number 1: 78T2512; RoHS: TRUE; Mounting Technology: Surface Mount; Code_JEDEC: MO-193; ComponentLink1Description: Manufacturer URL; ComponentLink1URL: http://www.linear.com/; ComponentLink2Description: Datasheet; ComponentLink2URL: http://cds.linear.com/docs/en/datasheet/1701bfa.pdf; ComponentLink3Description: Package Specification; ComponentLink3URL: http://cds.linear.com/docs/en/packaging/SOT_5_05-08-1635.pdf
footprint LT-S5-5-TSOT-23_N (SOT23, 5-Leads, Body 2.90x1.63mm, Pitch 0.95mm, IPC Medium Density)
footprint LT-S5-5-TSOT-23_L (SOT23, 5-Leads, Body 2.90x1.63mm, Pitch 0.95mm, IPC High Density)
footprint LT-S5-5-TSOT-23_M (SOT23, 5-Leads, Body 2.90x1.63mm, Pitch 0.95mm, IPC Low Density)
pins: 1 SW (power) "The Switch Node Connection to the Inductor. This pin swings from VIN to a Schottky diode (external) voltage drop below ground. The cathode of the Schottky diode must be closely connected to this pin.", 2 GND (power) "Ground Pin. Connect to the (-) terminal of COUT, the Schottky diode and (-) terminal of CIN.", 3 VFB (in) "Receives the feedback voltage from the external resistive divider across the output. Nominal voltage for this pin is 1.25V.", 4 ITH/RUN (in) "Combination of Error Amplifier Compensation Point and Run Control Input. The current comparator threshold increases with this control voltage. Nominal voltage range for this pin is 1.25V to 2.25V. Forcing this pin below 0.8V (See Datasheet)", 5 VIN (power) "Main Supply Pin and the (+) Input to the Current Comparator. Must be closely decoupled to ground."

## LTC1701ES5#TR
designator U?
1 MHz Step-Down DC/DC Converter, 5-pin SOT23 (S5-5), -40 to 85 degC, Tape and Reel; Manufacturer: Linear Technology; PartNumber: LTC1701ES5#TR; Number of Outputs: 1; DatasheetVersion: Rev. A; PackageVersion: Jun-10; PackageReference: S5-5; PackageDescription: 5-Pin Plastic TSOT-23, Body 1.63 x 2.90 mm, Pitch 0.95 mm; Supplier 1: Digi-Key; Supplier Part Number 1: LTC1701ES5#TR-ND; Supplier 2: Newark; Supplier Part Number 2: 56M3329; Packing: Tape and Reel; RoHS: FALSE; Mounting Technology: Surface Mount; Code_JEDEC: MO-193; ComponentLink1Description: Manufacturer URL; ComponentLink1URL: http://www.linear.com/; ComponentLink2Description: Datasheet; ComponentLink2URL: http://cds.linear.com/docs/en/datasheet/1701bfa.pdf; ComponentLink3Description: Package Specification; ComponentLink3URL: http://cds.linear.com/docs/en/packaging/SOT_5_05-08-1635.pdf
footprint LT-S5-5-TSOT-23_N (SOT23, 5-Leads, Body 2.90x1.63mm, Pitch 0.95mm, IPC Medium Density)
footprint LT-S5-5-TSOT-23_L (SOT23, 5-Leads, Body 2.90x1.63mm, Pitch 0.95mm, IPC High Density)
footprint LT-S5-5-TSOT-23_M (SOT23, 5-Leads, Body 2.90x1.63mm, Pitch 0.95mm, IPC Low Density)
pins: 1 SW (power) "The Switch Node Connection to the Inductor. This pin swings from VIN to a Schottky diode (external) voltage drop below ground. The cathode of the Schottky diode must be closely connected to this pin.", 2 GND (power) "Ground Pin. Connect to the (-) terminal of COUT, the Schottky diode and (-) terminal of CIN.", 3 VFB (in) "Receives the feedback voltage from the external resistive divider across the output. Nominal voltage for this pin is 1.25V.", 4 ITH/RUN (in) "Combination of Error Amplifier Compensation Point and Run Control Input. The current comparator threshold increases with this control voltage. Nominal voltage range for this pin is 1.25V to 2.25V. Forcing this pin below 0.8V (See Datasheet)", 5 VIN (power) "Main Supply Pin and the (+) Input to the Current Comparator. Must be closely decoupled to ground."

## LTC1701ES5#TRM
designator U?
1 MHz Step-Down DC/DC Converter, 5-pin SOT23 (S5-5), -40 to 85 degC, Mini Tape and Reel; Manufacturer: Linear Technology; PartNumber: LTC1701ES5#TRM; Number of Outputs: 1; DatasheetVersion: Rev. A; PackageVersion: Jun-10; PackageReference: S5-5; PackageDescription: 5-Pin Plastic TSOT-23, Body 1.63 x 2.90 mm, Pitch 0.95 mm; Supplier 1: Digi-Key; Supplier Part Number 1: LTC1701ES5#TRM-ND; Packing: Mini Tape and Reel; RoHS: FALSE; Mounting Technology: Surface Mount; Code_JEDEC: MO-193; ComponentLink1Description: Manufacturer URL; ComponentLink1URL: http://www.linear.com/; ComponentLink2Description: Datasheet; ComponentLink2URL: http://cds.linear.com/docs/en/datasheet/1701bfa.pdf; ComponentLink3Description: Package Specification; ComponentLink3URL: http://cds.linear.com/docs/en/packaging/SOT_5_05-08-1635.pdf
footprint LT-S5-5-TSOT-23_N (SOT23, 5-Leads, Body 2.90x1.63mm, Pitch 0.95mm, IPC Medium Density)
footprint LT-S5-5-TSOT-23_L (SOT23, 5-Leads, Body 2.90x1.63mm, Pitch 0.95mm, IPC High Density)
footprint LT-S5-5-TSOT-23_M (SOT23, 5-Leads, Body 2.90x1.63mm, Pitch 0.95mm, IPC Low Density)
pins: 1 SW (power) "The Switch Node Connection to the Inductor. This pin swings from VIN to a Schottky diode (external) voltage drop below ground. The cathode of the Schottky diode must be closely connected to this pin.", 2 GND (power) "Ground Pin. Connect to the (-) terminal of COUT, the Schottky diode and (-) terminal of CIN.", 3 VFB (in) "Receives the feedback voltage from the external resistive divider across the output. Nominal voltage for this pin is 1.25V.", 4 ITH/RUN (in) "Combination of Error Amplifier Compensation Point and Run Control Input. The current comparator threshold increases with this control voltage. Nominal voltage range for this pin is 1.25V to 2.25V. Forcing this pin below 0.8V (See Datasheet)", 5 VIN (power) "Main Supply Pin and the (+) Input to the Current Comparator. Must be closely decoupled to ground."

## LTC1701ES5#TRMPBF
designator U?
1 MHz Step-Down DC/DC Converter, 5-pin SOT23 (S5-5), -40 to 85 degC, Pb-Free, Mini Tape and Reel; Manufacturer: Linear Technology; PartNumber: LTC1701ES5#TRMPBF; Number of Outputs: 1; DatasheetVersion: Rev. A; PackageVersion: Jun-10; PackageReference: S5-5; PackageDescription: 5-Pin Plastic TSOT-23, Body 1.63 x 2.90 mm, Pitch 0.95 mm; Supplier 1: Digi-Key; Supplier Part Number 1: LTC1701ES5#TRMPBF-ND; Supplier 2: Newark; Supplier Part Number 2: 56M3331; Packing: Mini Tape and Reel; RoHS: TRUE; Mounting Technology: Surface Mount; Code_JEDEC: MO-193; ComponentLink1Description: Manufacturer URL; ComponentLink1URL: http://www.linear.com/; ComponentLink2Description: Datasheet; ComponentLink2URL: http://cds.linear.com/docs/en/datasheet/1701bfa.pdf; ComponentLink3Description: Package Specification; ComponentLink3URL: http://cds.linear.com/docs/en/packaging/SOT_5_05-08-1635.pdf
footprint LT-S5-5-TSOT-23_N (SOT23, 5-Leads, Body 2.90x1.63mm, Pitch 0.95mm, IPC Medium Density)
footprint LT-S5-5-TSOT-23_L (SOT23, 5-Leads, Body 2.90x1.63mm, Pitch 0.95mm, IPC High Density)
footprint LT-S5-5-TSOT-23_M (SOT23, 5-Leads, Body 2.90x1.63mm, Pitch 0.95mm, IPC Low Density)
pins: 1 SW (power) "The Switch Node Connection to the Inductor. This pin swings from VIN to a Schottky diode (external) voltage drop below ground. The cathode of the Schottky diode must be closely connected to this pin.", 2 GND (power) "Ground Pin. Connect to the (-) terminal of COUT, the Schottky diode and (-) terminal of CIN.", 3 VFB (in) "Receives the feedback voltage from the external resistive divider across the output. Nominal voltage for this pin is 1.25V.", 4 ITH/RUN (in) "Combination of Error Amplifier Compensation Point and Run Control Input. The current comparator threshold increases with this control voltage. Nominal voltage range for this pin is 1.25V to 2.25V. Forcing this pin below 0.8V (See Datasheet)", 5 VIN (power) "Main Supply Pin and the (+) Input to the Current Comparator. Must be closely decoupled to ground."

## LTC1701ES5#TRPBF
designator U?
1 MHz Step-Down DC/DC Converter, 5-pin SOT23 (S5-5), -40 to 85 degC, Pb-Free, Tape and Reel; Manufacturer: Linear Technology; PartNumber: LTC1701ES5#TRPBF; Number of Outputs: 1; DatasheetVersion: Rev. A; PackageVersion: Jun-10; PackageReference: S5-5; PackageDescription: 5-Pin Plastic TSOT-23, Body 1.63 x 2.90 mm, Pitch 0.95 mm; Supplier 1: Digi-Key; Supplier Part Number 1: LTC1701ES5#TRPBF-ND; Supplier 2: Newark; Supplier Part Number 2: 56M3332; Packing: Tape and Reel; RoHS: TRUE; Mounting Technology: Surface Mount; Code_JEDEC: MO-193; ComponentLink1Description: Manufacturer URL; ComponentLink1URL: http://www.linear.com/; ComponentLink2Description: Datasheet; ComponentLink2URL: http://cds.linear.com/docs/en/datasheet/1701bfa.pdf; ComponentLink3Description: Package Specification; ComponentLink3URL: http://cds.linear.com/docs/en/packaging/SOT_5_05-08-1635.pdf
footprint LT-S5-5-TSOT-23_N (SOT23, 5-Leads, Body 2.90x1.63mm, Pitch 0.95mm, IPC Medium Density)
footprint LT-S5-5-TSOT-23_L (SOT23, 5-Leads, Body 2.90x1.63mm, Pitch 0.95mm, IPC High Density)
footprint LT-S5-5-TSOT-23_M (SOT23, 5-Leads, Body 2.90x1.63mm, Pitch 0.95mm, IPC Low Density)
pins: 1 SW (power) "The Switch Node Connection to the Inductor. This pin swings from VIN to a Schottky diode (external) voltage drop below ground. The cathode of the Schottky diode must be closely connected to this pin.", 2 GND (power) "Ground Pin. Connect to the (-) terminal of COUT, the Schottky diode and (-) terminal of CIN.", 3 VFB (in) "Receives the feedback voltage from the external resistive divider across the output. Nominal voltage for this pin is 1.25V.", 4 ITH/RUN (in) "Combination of Error Amplifier Compensation Point and Run Control Input. The current comparator threshold increases with this control voltage. Nominal voltage range for this pin is 1.25V to 2.25V. Forcing this pin below 0.8V (See Datasheet)", 5 VIN (power) "Main Supply Pin and the (+) Input to the Current Comparator. Must be closely decoupled to ground."